# Altium schematic symbol library FishLib.SchLib: 6 symbols
Pins are listed as number, name and electrical type; pins without a type are passive.

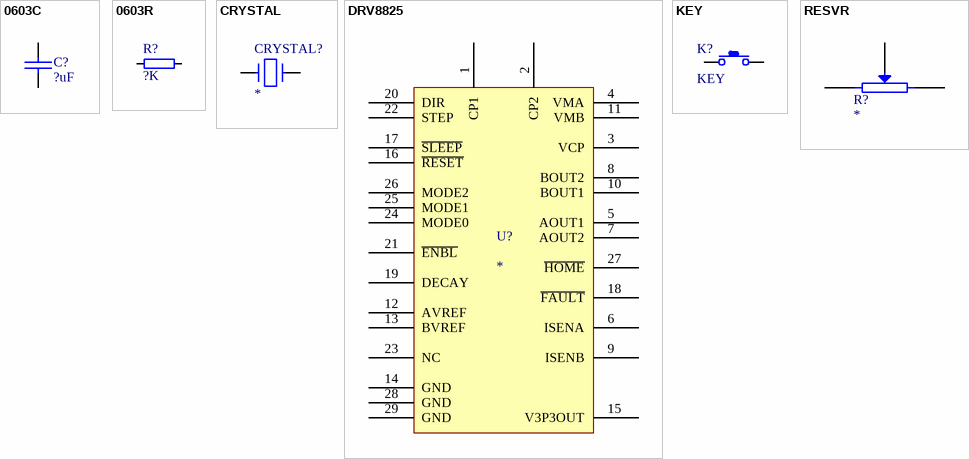
[diagram p0: symbols 0603C to RESVR]

## 0603C
designator C?, comment ?uF
0603Capacitor
footprint 0603C
pins: 1, 2

## 0603R
designator R?, comment ?K
footprint 0603R
pins: 1, 2

## CRYSTAL
designator CRYSTAL?
footprint XTAL
pins: 1, 2

## DRV8825
designator U?
STEPPER MOTOR CONTROLLER IC
footprint SSOP28
pins: 1 CP1, 2 CP2, 3 VCP, 4 VMA, 5 AOUT1, 6 ISENA, 7 AOUT2, 8 BOUT2, 9 ISENB, 10 BOUT1, 11 VMB, 12 AVREF, 13 BVREF, 14 GND, 15 V3P3OUT, 16 ~{RESET}, 17 ~{SLEEP}, 18 ~{FAULT}, 19 DECAY, 20 DIR, 21 ~{ENBL}, 22 STEP, 23 NC, 24 MODE0, 25 MODE1, 26 MODE2, 27 ~{HOME}, 28 GND, 29 GND

## KEY
designator K?
footprint KFC
footprint KFC
pins: 1, 2

## RESVR
designator R?
Potentiometer
footprint VR3296
pins: 1, 2, 3 W